# EAGLE library part VS6502 (library IC)
ST Microelectronics VGA CMOS Image Sensor Module
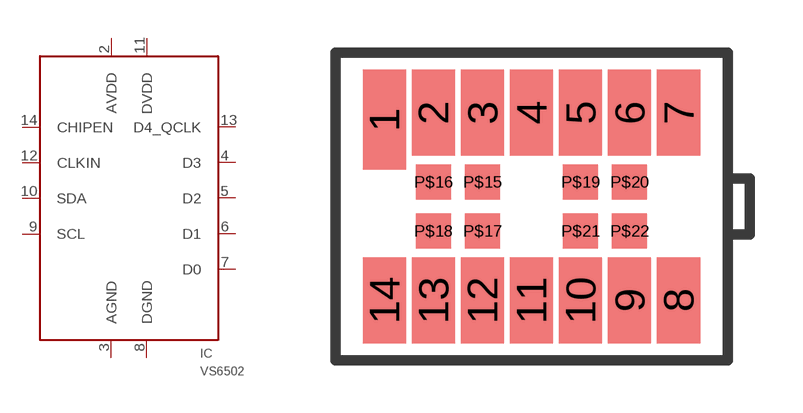
[diagram p167: symbol with the pads of SMOP1.5; footprint SMOP1.5]

Designator prefix IC

## VS6502  [SMOP1.5]
2  AVDD  pwr
3  AGND  pwr
4  D3
5  D2
6  D1
7  D0
8  DGND  pwr
9  SCL
10  SDA
11  DVDD  pwr
12  CLKIN
13  D4_QCLK
14  CHIPEN

## Footprint SMOP1.5 (pad centres in mm)
ST Microelectronics Small optical Package
smd 1.23 x 2.85: 1 -4.2,2.48
smd 1.23 x 2.45: 2 -2.8,2.68; 3 -1.4,2.68; 4 0,2.68; 5 1.4,2.68; 6 2.8,2.68; 7 4.2,2.68; 8 4.2,-2.68; 9 2.8,-2.68; 10 1.4,-2.68; 11 0,-2.68; 12 -1.4,-2.68; 13 -2.8,-2.68; 14 -4.2,-2.68
smd 1 x 1: P$15 -1.4,0.7; P$16 -2.8,0.7; P$17 -1.4,-0.7; P$18 -2.8,-0.7; P$19 1.4,0.7; P$20 2.8,0.7; P$21 1.4,-0.7; P$22 2.8,-0.7